# Altium schematic symbol library MC145012.Schlib: 1 symbol
Pins are listed as number, name and electrical type; pins without a type are passive.

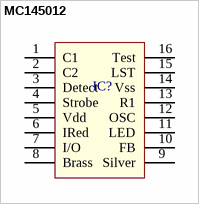
[diagram p0: symbol MC145012]

## MC145012
designator IC?
Photoelectric smoke detector
pins: 1 C1, 2 C2, 3 Detect, 4 Strobe, 5 Vdd, 6 IRed, 7 I/O, 8 Brass, 9 Silver, 10 FB, 11 LED, 12 OSC, 13 R1, 14 Vss, 15 LST, 16 Test